# EAGLE library part SIMHOLDER (library SparkFun-Connectors_mod)
SIM Socket Socket for SIM cellular cards. Schematic element and footprint production proven. Spark Fun Electronics SKU : PRT-00548
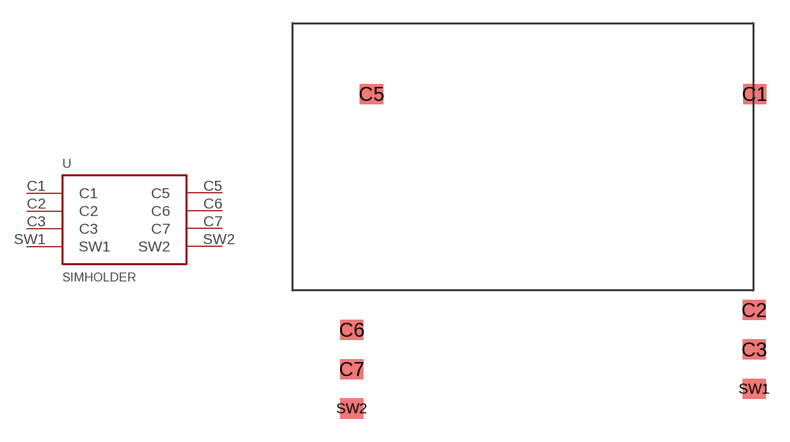
[diagram p52: symbol with the pads of SIMHOLDER; footprint SIMHOLDER]

Designator prefix -

## SIMHOLDER  [SIMHOLDER]
C1  C1
C2  C2
C3  C3
C5  C5
C6  C6
C7  C7
SW1  SW1
SW2  SW2

## Footprint SIMHOLDER (pad centres in mm)
smd 1.5 x 1.3: C1 29.81,12.7; C2 29.78,-1.26; C3 29.78,-3.81; C5 5.08,12.7; C6 3.81,-2.54; C7 3.81,-5.08; SW1 29.78,-6.35; SW2 3.81,-7.62